# EAGLE library part MX1508 (library hugo)
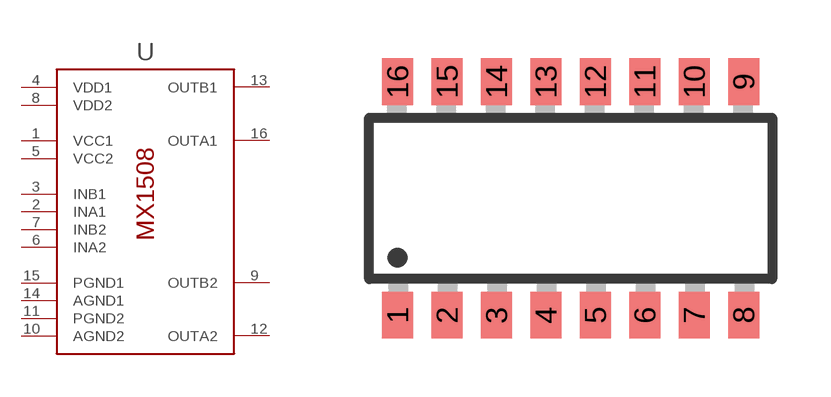
[diagram p0: symbol with the pads of SOP16; footprint SOP16]

Designator prefix -

## MX1508  [SOP16]
1  VCC1
2  INA1
3  INB1
4  VDD1
5  VCC2
6  INA2
7  INB2
8  VDD2
9  OUTB2
10  AGND2
11  PGND2
12  OUTA2
13  OUTB1
14  AGND1
15  PGND1
16  OUTA1

## Footprint SOP16 (pad centres in mm)
smd 0.8 x 1.2: 1 -4.445,-3; 2 -3.175,-3; 3 -1.905,-3; 4 -0.635,-3; 5 0.635,-3; 6 1.905,-3; 7 3.175,-3; 8 4.445,-3; 9 4.445,3; 10 3.175,3; 11 1.905,3; 12 0.635,3; 13 -0.635,3; 14 -1.905,3; 15 -3.175,3; 16 -4.445,3